# EAGLE library part LCD-3.5INCH (library LCD-3.5INCH)
For use with coldtears electronics 3.5INCH ILI9481LCD
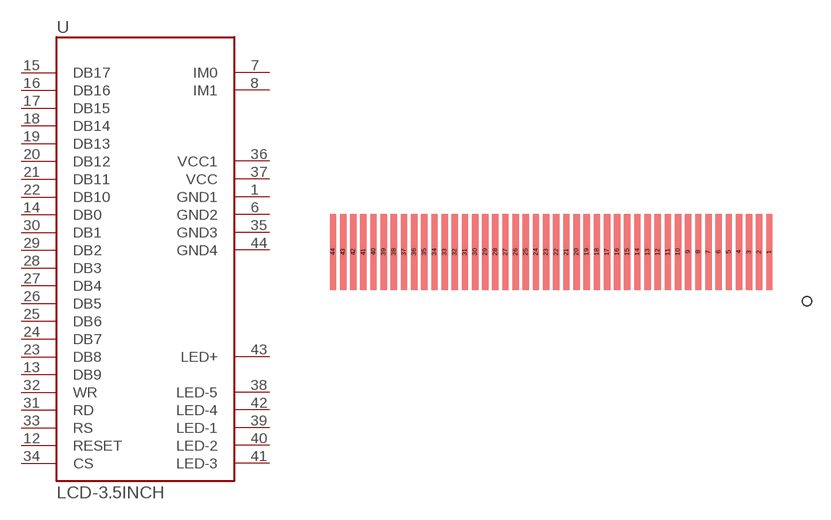
[diagram p0: symbol with the pads of LCD-3.5-44PIN-0.8; footprint LCD-3.5-44PIN-0.8]

Designator prefix -

## LCD-3.5INCH  [LCD-3.5-44PIN-0.8]
1  GND1
6  GND2
7  IM0
8  IM1
12  RESET
13  DB9
14  DB0
15  DB17
16  DB16
17  DB15
18  DB14
19  DB13
20  DB12
21  DB11
22  DB10
23  DB8
24  DB7
25  DB6
26  DB5
27  DB4
28  DB3
29  DB2
30  DB1
31  RD
32  WR
33  RS
34  CS
35  GND3
36  VCC1
37  VCC
38  LED-5
39  LED-1
40  LED-2
41  LED-3
42  LED-4
43  LED+
44  GND4

## Footprint LCD-3.5-44PIN-0.8 (pad centres in mm)
smd 0.5 x 6: 1 -2.84,-2.45; 2 -3.64,-2.45; 3 -4.44,-2.45; 4 -5.24,-2.45; 5 -6.04,-2.45; 6 -6.84,-2.45; 7 -7.64,-2.45; 8 -8.44,-2.45; 9 -9.24,-2.45; 10 -10.04,-2.45; 11 -10.84,-2.45; 12 -11.64,-2.45; 13 -12.44,-2.45; 14 -13.24,-2.45; 15 -14.04,-2.45; 16 -14.84,-2.45; 17 -15.64,-2.45; 18 -16.44,-2.45; 19 -17.24,-2.45; 20 -18.04,-2.45; 21 -18.84,-2.45; 22 -19.64,-2.45; 23 -20.44,-2.45; 24 -21.24,-2.45; 25 -22.04,-2.45; 26 -22.84,-2.45; 27 -23.64,-2.45; 28 -24.44,-2.45; 29 -25.24,-2.45; 30 -26.04,-2.45; 31 -26.84,-2.45; 32 -27.64,-2.45; 33 -28.44,-2.45; 34 -29.24,-2.45; 35 -30.04,-2.45; 36 -30.84,-2.45; 37 -31.64,-2.45; 38 -32.44,-2.45; 39 -33.24,-2.45; 40 -34.04,-2.45; 41 -34.84,-2.45; 42 -35.64,-2.45; 43 -36.44,-2.45; 44 -37.24,-2.45